# EAGLE library part PCF8574 (library _allyourbase)
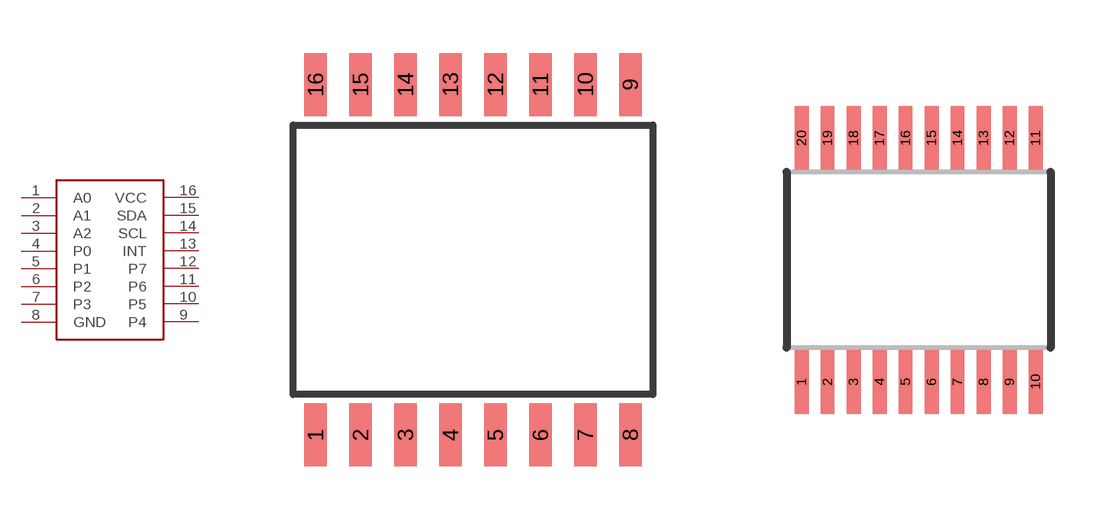
[diagram p1: symbol with the pads of SOIC-16; footprints SOIC-16, TSSOP-20]

Designator prefix -

## PCF8574SOIC-16  [SOIC-16]
1  A0
2  A1
3  A2
4  P0
5  P1
6  P2
7  P3
8  GND
9  P4
10  P5
11  P6
12  P7
13  INT
14  SCL
15  SDA
16  VCC

## PCF8574TSSOP-20  [TSSOP-20]
1  INT
2  SCL
4  SDA
5  VCC
6  A0
7  A1
9  A2
10  P0
11  P1
12  P2
14  P3
15  GND
16  P4
17  P5
19  P6
20  P7

## PCF8574DIP16  [DIL16]
Pads as for SOIC-16

## Footprint SOIC-16 (pad centres in mm)
smd 0.635 x 1.778: 1 -4.445,-4.953; 2 -3.175,-4.953; 3 -1.905,-4.953; 4 -0.635,-4.953; 5 0.635,-4.953; 6 1.905,-4.953; 7 3.175,-4.953; 8 4.445,-4.953; 9 4.445,4.953; 10 3.175,4.953; 11 1.905,4.953; 12 0.635,4.953; 13 -0.635,4.953; 14 -1.905,4.953; 15 -3.175,4.953; 16 -4.445,4.953

## Footprint TSSOP-20 (pad centres in mm)
smd 0.35 x 1.6: 1 -2.925,-3.05; 2 -2.275,-3.05; 3 -1.625,-3.05; 4 -0.975,-3.05; 5 -0.325,-3.05; 6 0.325,-3.05; 7 0.975,-3.05; 8 1.625,-3.05; 9 2.275,-3.05; 10 2.925,-3.05; 11 2.925,3.05; 12 2.275,3.05; 13 1.625,3.05; 14 0.975,3.05; 15 0.325,3.05; 16 -0.325,3.05; 17 -0.975,3.05; 18 -1.625,3.05; 19 -2.275,3.05; 20 -2.925,3.05

## Footprint DIL16 (pad centres in mm)
Dual In Line Package
drill 0.813 long: 1 -8.89,-3.81; 2 -6.35,-3.81; 3 -3.81,-3.81; 4 -1.27,-3.81; 5 1.27,-3.81; 6 3.81,-3.81; 7 6.35,-3.81; 8 8.89,-3.81; 9 8.89,3.81; 10 6.35,3.81; 11 3.81,3.81; 12 1.27,3.81; 13 -1.27,3.81; 14 -3.81,3.81; 15 -6.35,3.81; 16 -8.89,3.81